# Altium integrated library CST-951AP.IntLib: 1 symbol
Pins are listed as number, name and electrical type; pins without a type are passive.

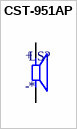
[diagram p0: symbol CST-951AP]

## CST-951AP
designator LS?
9 mm, 5 V, 85 dB, Through Hole, Magnetic Audio Transducer Buzzer; MF: Same Sky; MP: CST-951AP; SnapEDA_Link: https://www.snapeda.com/parts/CST-951AP/Same+Sky/view-part/?ref=snap; Package: None; Value: *; Check_prices: https://www.snapeda.com/parts/CST-951AP/Same+Sky/view-part/?ref=eda
footprint CUI_CST-951AP
pins: M, P
text: +; -